# Altium footprint library k7sch1.PcbLib: 15 footprints
Each footprint in its own frame and in the unit in brackets; x right, y up, seen from the top. Pads: shape width x height; smd on the part's side, far side on the other; paste and mask are expansions set on the pad; w line width, h text height; cw(c..) or ccw(c..) is an arc to the next point about the centre after c.
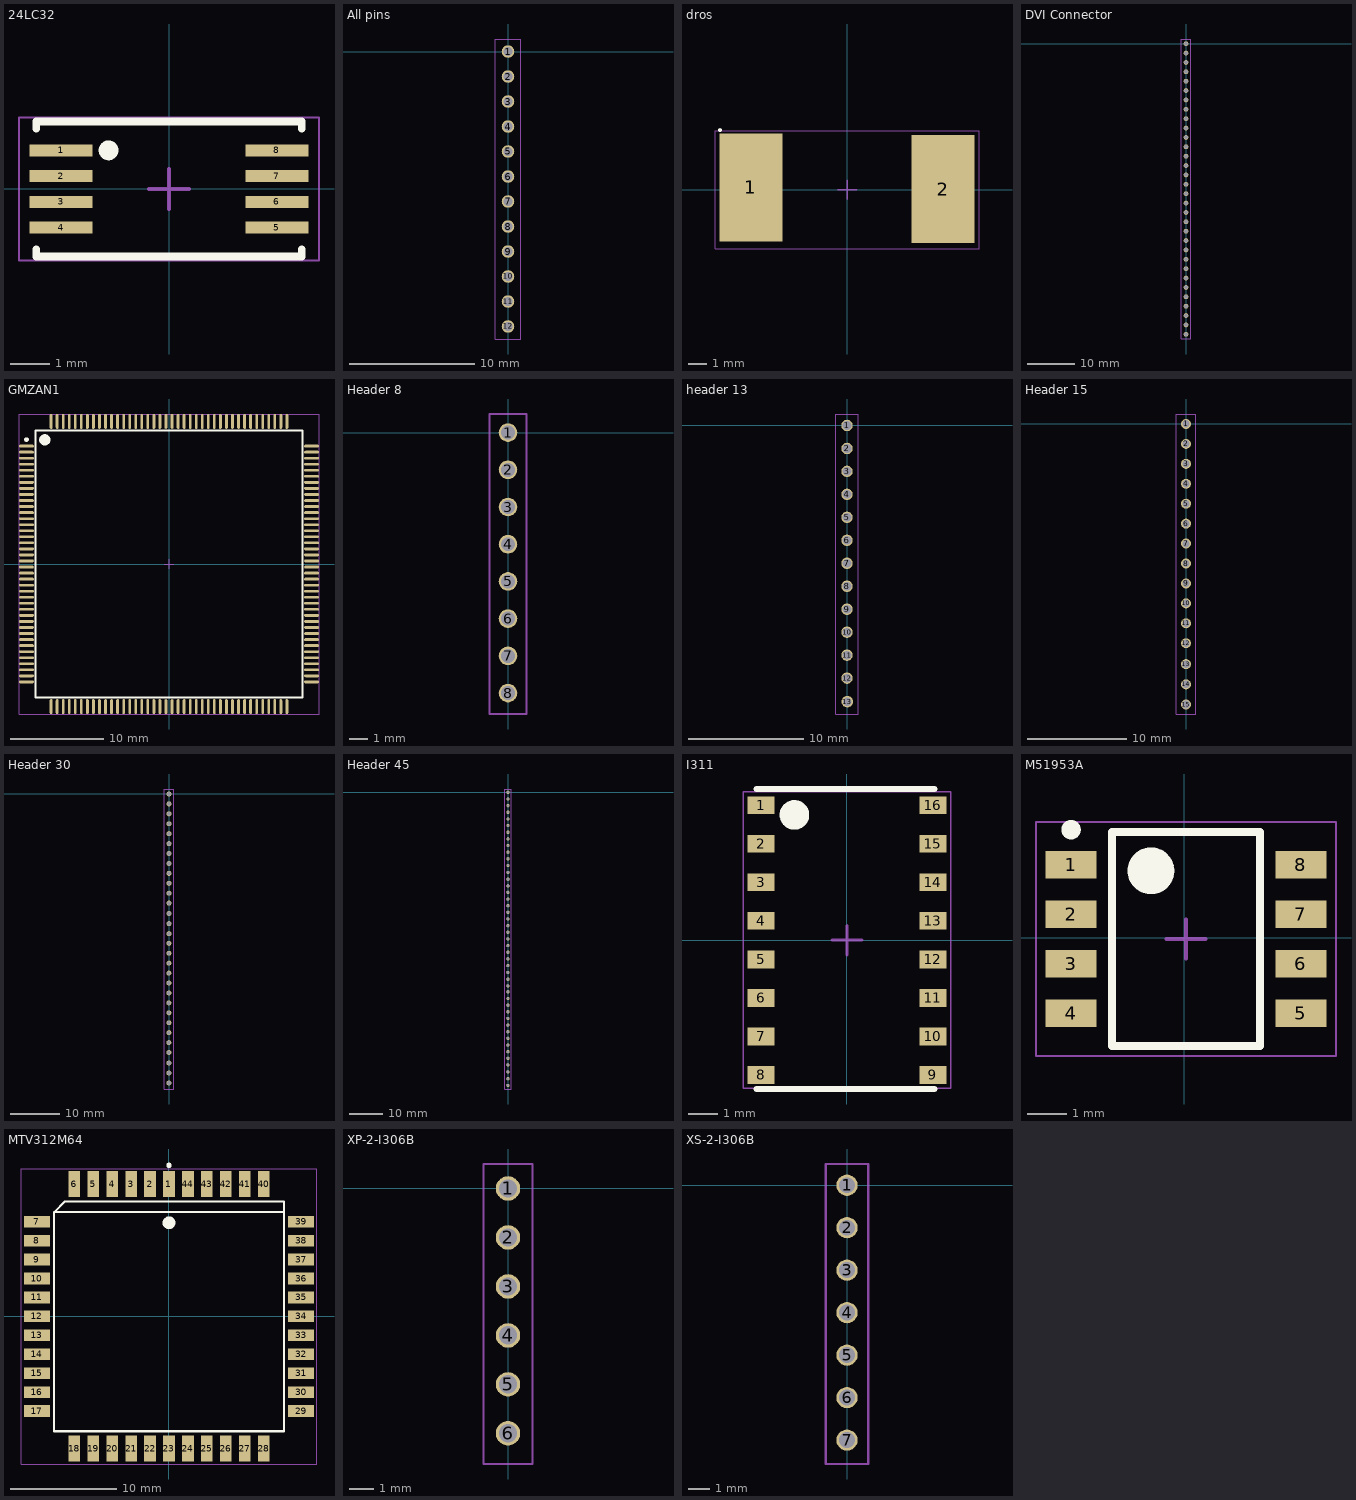
[diagram p0: the footprints below, top view; thin cyan lines are the x and y axes]

## 24LC32 [mm] "SON, 8-Leads, Body 3,10x6,40mm, Pitch 0,65mm, IPC Medium Density"
height 1.2
pads (8):
  rect 1.6x0.3 smd: 1(-2.725,0.975) 2(-2.725,0.325) 3(-2.725,-0.325) 4(-2.725,-0.975) 5(2.725,-0.975) 6(2.725,-0.325) 7(2.725,0.325) 8(2.725,0.975)
Top Overlay:
  circle w0.25: c-1.525,0.975 r0.125
  lines w0.2: -3.35,-1.525 -3.35,-1.7 3.35,-1.7 3.35,-1.525 ; -3.35,1.525 -3.35,1.7 3.35,1.7 3.35,1.525
Mechanical 15:
  lines w0.05: -3.785,-1.8 -3.785,1.8 3.785,1.8 3.785,-1.8 -3.785,-1.8
  lines w0.1: -0.5,0 0.5,0 ; 0,-0.5 0,0.5

## All pins [mm]
pads (12):
  round 1 hole 0.75: 1(0,0) 2(0,-2) 3(0,-4) 4(0,-6) 5(0,-8) 6(0,-10) 7(0,-12) 8(0,-14) 9(0,-16) 10(0,-18) 11(0,-20) 12(0,-22)
Mechanical 15:
  lines w0.1: -1,-23 1,-23 1,1 -1,1 -1,-23

## dros [mm] "SODFL, 2-Leads, Body 6,00x13,20mm, IPC Medium Density"
height 1.6
pads (2):
  rect 3.35x5.75 smd: 1(-5.125,0.125) 2(5.1,0.025)
Top Overlay:
  circle w0.1: c-6.775,3.175 r0.05
Mechanical 15:
  lines w0.05: -7.025,-3.15 -7.025,3.15 7.025,3.15 7.025,-3.15 -7.025,-3.15
  lines w0.1: -0.5,0 0.5,0 ; 0,-0.5 0,0.5

## DVI Connector [mm]
pads (32):
  round 1 hole 0.75: 1(0,0) 2(0,-2) 3(0,-4) 4(0,-6) 5(0,-8) 6(0,-10) 7(0,-12) 8(0,-14) 9(0,-16) 10(0,-18) 11(0,-20) 12(0,-22) 13(0,-24) 14(0,-26) 15(0,-28) 16(0,-30) 17(0,-32) 18(0,-34) 19(0,-36) 20(0,-38) 21(0,-40) 22(0,-42) 23(0,-44) 24(0,-46) 25(0,-48) 26(0,-50) 27(0,-52) 28(0,-54) 29(0,-56) 30(0,-58) 31(0,-60) 32(0,-62)
Mechanical 15:
  lines w0.1: -1,-63 1,-63 1,1 -1,1 -1,0.5 -1,-63

## GMZAN1 [mm] "QFP, 160-Leads, Body 27,90x27,90mm, Pitch 0,65mm, IPC Medium Density"
height 4.25
pads (160):
  oval 1.6x0.3 smd: 1(-15.325,12.675) 2(-15.325,12.025) 3(-15.325,11.375) 4(-15.325,10.725) 5(-15.325,10.075) 6(-15.325,9.425) 7(-15.325,8.775) 8(-15.325,8.125) 9(-15.325,7.475) 10(-15.325,6.825) 11(-15.325,6.175) 12(-15.325,5.525) 13(-15.325,4.875) 14(-15.325,4.225) 15(-15.325,3.575) 16(-15.325,2.925) 17(-15.325,2.275) 18(-15.325,1.625) 19(-15.325,0.975) 20(-15.325,0.325) 21(-15.325,-0.325) 22(-15.325,-0.975) 23(-15.325,-1.625) 24(-15.325,-2.275) 25(-15.325,-2.925) 26(-15.325,-3.575) 27(-15.325,-4.225) 28(-15.325,-4.875) 29(-15.325,-5.525) 30(-15.325,-6.175) 31(-15.325,-6.825) 32(-15.325,-7.475) 33(-15.325,-8.125) 34(-15.325,-8.775) 35(-15.325,-9.425) 36(-15.325,-10.075) 37(-15.325,-10.725) 38(-15.325,-11.375) 39(-15.325,-12.025) 40(-15.325,-12.675) 81(15.325,-12.675) 82(15.325,-12.025) 83(15.325,-11.375) 84(15.325,-10.725) 85(15.325,-10.075) 86(15.325,-9.425) 87(15.325,-8.775) 88(15.325,-8.125) 89(15.325,-7.475) 90(15.325,-6.825) 91(15.325,-6.175) 92(15.325,-5.525) 93(15.325,-4.875) 94(15.325,-4.225) 95(15.325,-3.575) 96(15.325,-2.925) 97(15.325,-2.275) 98(15.325,-1.625) 99(15.325,-0.975) 100(15.325,-0.325) 101(15.325,0.325) 102(15.325,0.975) 103(15.325,1.625) 104(15.325,2.275) 105(15.325,2.925) 106(15.325,3.575) 107(15.325,4.225) 108(15.325,4.875) 109(15.325,5.525) 110(15.325,6.175) 111(15.325,6.825) 112(15.325,7.475) 113(15.325,8.125) 114(15.325,8.775) 115(15.325,9.425) 116(15.325,10.075) 117(15.325,10.725) 118(15.325,11.375) 119(15.325,12.025) 120(15.325,12.675)
  oval 0.3x1.6 smd: 41(-12.675,-15.325) 42(-12.025,-15.325) 43(-11.375,-15.325) 44(-10.725,-15.325) 45(-10.075,-15.325) 46(-9.425,-15.325) 47(-8.775,-15.325) 48(-8.125,-15.325) 49(-7.475,-15.325) 50(-6.825,-15.325) 51(-6.175,-15.325) 52(-5.525,-15.325) 53(-4.875,-15.325) 54(-4.225,-15.325) 55(-3.575,-15.325) 56(-2.925,-15.325) 57(-2.275,-15.325) 58(-1.625,-15.325) 59(-0.975,-15.325) 60(-0.325,-15.325) 61(0.325,-15.325) 62(0.975,-15.325) 63(1.625,-15.325) 64(2.275,-15.325) 65(2.925,-15.325) 66(3.575,-15.325) 67(4.225,-15.325) 68(4.875,-15.325) 69(5.525,-15.325) 70(6.175,-15.325) 71(6.825,-15.325) 72(7.475,-15.325) 73(8.125,-15.325) 74(8.775,-15.325) 75(9.425,-15.325) 76(10.075,-15.325) 77(10.725,-15.325) 78(11.375,-15.325) 79(12.025,-15.325) 80(12.675,-15.325) 121(12.675,15.325) 122(12.025,15.325) 123(11.375,15.325) 124(10.725,15.325) 125(10.075,15.325) 126(9.425,15.325) 127(8.775,15.325) 128(8.125,15.325) 129(7.475,15.325) 130(6.825,15.325) 131(6.175,15.325) 132(5.525,15.325) 133(4.875,15.325) 134(4.225,15.325) 135(3.575,15.325) 136(2.925,15.325) 137(2.275,15.325) 138(1.625,15.325) 139(0.975,15.325) 140(0.325,15.325) 141(-0.325,15.325) 142(-0.975,15.325) 143(-1.625,15.325) 144(-2.275,15.325) 145(-2.925,15.325) 146(-3.575,15.325) 147(-4.225,15.325) 148(-4.875,15.325) 149(-5.525,15.325) 150(-6.175,15.325) 151(-6.825,15.325) 152(-7.475,15.325) 153(-8.125,15.325) 154(-8.775,15.325) 155(-9.425,15.325) 156(-10.075,15.325) 157(-10.725,15.325) 158(-11.375,15.325) 159(-12.025,15.325) 160(-12.675,15.325)
Top Overlay:
  circle w0.6: c-13.35,13.35 r0.3
  circle w0.25: c-15.325,13.375 r0.125
  lines w0.2: -14.35,-14.35 14.35,-14.35 14.35,14.35 -14.35,14.35 -14.35,-14.35
Mechanical 15:
  lines w0.05: -16.125,-16.125 16.125,-16.125 16.125,16.125 -16.125,16.125 -16.125,-16.125
  lines w0.1: -0.5,0 0.5,0 ; 0,-0.5 0,0.5

## Header 8 [mm]
pads (8):
  round 1 hole 0.75: 1(0,0) 2(0,-2) 3(0,-4) 4(0,-6) 5(0,-8) 6(0,-10) 7(0,-12) 8(0,-14)
Mechanical 15:
  lines w0.1: -1,-15.125 1,-15.125 1,1 -1,1 -1,-15.125

## header 13 [mm]
pads (13):
  round 1 hole 0.75: 1(0,0) 2(0,-2) 3(0,-4) 4(0,-6) 5(0,-8) 6(0,-10) 7(0,-12) 8(0,-14) 9(0,-16) 10(0,-18) 11(0,-20) 12(0,-22) 13(0.025,-24.05)
Mechanical 15:
  lines w0.1: -1,-25.125 -1,1 1,1 1,-25.125 -1,-25.125

## Header 15 [mm]
pads (15):
  round 1 hole 0.75: 1(0,0) 2(0,-2) 3(0,-4) 4(0,-6) 5(0,-8) 6(0,-10) 7(0,-12) 8(0,-14) 9(0,-16) 10(0,-18) 11(0,-20) 12(0,-22)
  round 1 hole 0.762: 13(0,-24.1) 14(0,-26.125) 15(0,-28.15)
Mechanical 15:
  lines w0.1: -1,-29.1 -1,1 1,1 1,-29.1 -1,-29.1

## Header 30 [mm]
pads (30):
  round 1 hole 0.75: 1(0,0) 2(0,-2) 3(0,-4) 4(0,-6) 5(0,-8) 6(0,-10) 7(0,-12) 8(0,-14) 9(0,-16) 10(0,-18) 11(0,-20) 12(0,-22) 16(-0.025,-30.1) 17(-0.025,-32.1) 18(-0.025,-34.1) 19(-0.025,-36.1) 20(-0.025,-38.1) 22(-0.025,-42.1) 23(-0.025,-44.1) 24(-0.025,-46.1) 25(-0.025,-48.1) 26(-0.025,-50.1) 27(-0.025,-52.1)
  round 1 hole 0.762: 13(0,-24.1) 14(0,-26.125) 15(0,-28.15) 28(-0.025,-54.2) 29(-0.025,-56.225) 30(-0.025,-58.25)
  round 1 hole 0.75 mask+0.102: 21(-0.025,-40.1)
Mechanical 15:
  lines w0.1: -1,-59.45 -1,1 1,1 1,-59.45 -1,-59.45

## Header 45 [mm]
pads (45):
  round 1 hole 0.75: 1(0,0) 2(0,-2) 3(0,-4) 4(0,-6) 5(0,-8) 6(0,-10) 7(0,-12) 8(0,-14) 9(0,-16) 10(0,-18) 11(0,-20) 12(0,-22) 16(-0.025,-30.1) 17(-0.025,-32.1) 18(-0.025,-34.1) 19(-0.025,-36.1) 20(-0.025,-38.1) 22(-0.025,-42.1) 23(-0.025,-44.1) 24(-0.025,-46.1) 25(-0.025,-48.1) 26(-0.025,-50.1) 27(-0.025,-52.1) 31(-0.025,-60.025) 32(-0.025,-62.025) 33(-0.025,-64.025) 34(-0.025,-66.025) 35(-0.025,-68.025) 37(-0.025,-72.025) 38(-0.025,-74.025) 39(-0.025,-76.025) 40(-0.025,-78.025) 41(-0.025,-80.025) 42(-0.025,-82.025)
  round 1 hole 0.762: 13(0,-24.1) 14(0,-26.125) 15(0,-28.15) 28(-0.025,-54.2) 29(-0.025,-56.225) 30(-0.025,-58.25) 43(-0.025,-84.125) 44(-0.025,-86.15) 45(-0.025,-88.175)
  round 1 hole 0.75 mask+0.102: 21(-0.025,-40.1) 36(-0.025,-70.025)
Mechanical 15:
  lines w0.1: -1,-89.25 1,-89.25 1,1 -1,1 -1,-89.25

## I311 [mm] "SON, 16-Leads, Body 9,80x5,60mm, Pitch 1,30mm, Thermal Pad 0,00x0,00mm, IPC Medium Density"
height 1.2
pads (16):
  rect 0.9x0.6 smd: 1(-2.9,4.55) 2(-2.9,3.25) 3(-2.9,1.95) 4(-2.9,0.65) 5(-2.9,-0.65) 6(-2.9,-1.95) 7(-2.9,-3.25) 8(-2.9,-4.55) 9(2.9,-4.55) 10(2.9,-3.25) 11(2.9,-1.95) 12(2.9,-0.65) 13(2.9,0.65) 14(2.9,1.95) 15(2.9,3.25) 16(2.9,4.55)
Top Overlay:
  circle w0.5: c-1.775,4.225 r0.25
  lines w0.2: -3.05,-5.025 2.95,-5.025 ; -3.05,5.1 2.95,5.1
Mechanical 15:
  lines w0.05: -3.5,-5 3.5,-5 3.5,5 -3.5,5 -3.5,-5
  lines w0.1: -0.5,0 0.5,0 ; 0,-0.5 0,0.5

## M51953A [mm]
pads (8):
  rect 1.3x0.7 smd: 1(-2.909,1.867) 2(-2.909,0.597) 3(-2.909,-0.673) 4(-2.909,-1.943) 5(2.991,-1.943) 6(2.991,-0.673) 7(2.991,0.597) 8(2.991,1.867)
Top Overlay:
  circle w0.25: c-2.909,2.767 r0.125
  circle w0.6: c-0.859,1.712 r0.3
  lines w0.2: -1.859,-2.788 -1.859,2.712 1.941,2.712 1.941,-2.788 -1.859,-2.788
Mechanical 15:
  lines w0.05: -3.809,-3.038 -3.809,2.962 3.891,2.962 3.891,-3.038 -3.809,-3.038
  lines w0.1: -0.459,-0.038 0.541,-0.038 ; 0.041,-0.538 0.041,0.462

## MTV312M64 [mm] "Leaded Chip Carrier, 44-Leads, Body 26,40x26,40mm, Pitch 1,780mm, IPC Medium Density"
height 4.57
pads (44):
  rect 1.1x2.45 smd: 1(0,12.425) 2(-1.78,12.425) 3(-3.56,12.425) 4(-5.34,12.425) 5(-7.12,12.425) 6(-8.9,12.425) 18(-8.9,-12.425) 19(-7.12,-12.425) 20(-5.34,-12.425) 21(-3.56,-12.425) 22(-1.78,-12.425) 23(0,-12.425) 24(1.78,-12.425) 25(3.56,-12.425) 26(5.34,-12.425) 27(7.12,-12.425) 28(8.9,-12.425) 40(8.9,12.425) 41(7.12,12.425) 42(5.34,12.425) 43(3.56,12.425) 44(1.78,12.425)
  rect 2.45x1.1 smd: 7(-12.425,8.9) 8(-12.425,7.12) 9(-12.425,5.34) 10(-12.425,3.56) 11(-12.425,1.78) 12(-12.425,0) 13(-12.425,-1.78) 14(-12.425,-3.56) 15(-12.425,-5.34) 16(-12.425,-7.12) 17(-12.425,-8.9) 29(12.425,-8.9) 30(12.425,-7.12) 31(12.425,-5.34) 32(12.425,-3.56) 33(12.425,-1.78) 34(12.425,0) 35(12.425,1.78) 36(12.425,3.56) 37(12.425,5.34) 38(12.425,7.12) 39(12.425,8.9)
Top Overlay:
  circle w0.25: c0,14.2 r0.125
  circle w0.6: c0,8.8 r0.3
  lines w0.2: 10.8,9.8 -10.8,9.8 ; -10.8,9.8 -9.8,10.8 10.8,10.8 10.8,-10.8 -10.8,-10.8 -10.8,9.8
Mechanical 15:
  lines w0.05: -13.875,-13.875 -13.875,13.875 13.875,13.875 13.875,-13.875 -13.875,-13.875

## XP-2-I306B [mm]
pads (6):
  round 1 hole 0.75: 1(0,0) 2(0,-2) 3(0,-4) 4(0,-6) 5(0,-8) 6(0,-10)
Mechanical 15:
  lines w0.1: -1,-11.25 -1,1 1,1 1,-11.25 -1,-11.25

## XS-2-I306B [mm]
pads (7):
  round 1 hole 0.75: 1(0,0) 2(0,-2) 3(0,-4) 4(0,-6) 5(0,-8) 6(0,-10) 7(0,-12)
Mechanical 15:
  lines w0.1: -1,-13.125 1,-13.125 1,1 -1,1 -1,-13.125